# Altium integrated library TI Power Management Supervisor and Reset IC.IntLib: 819 symbols (part 18 of 30)
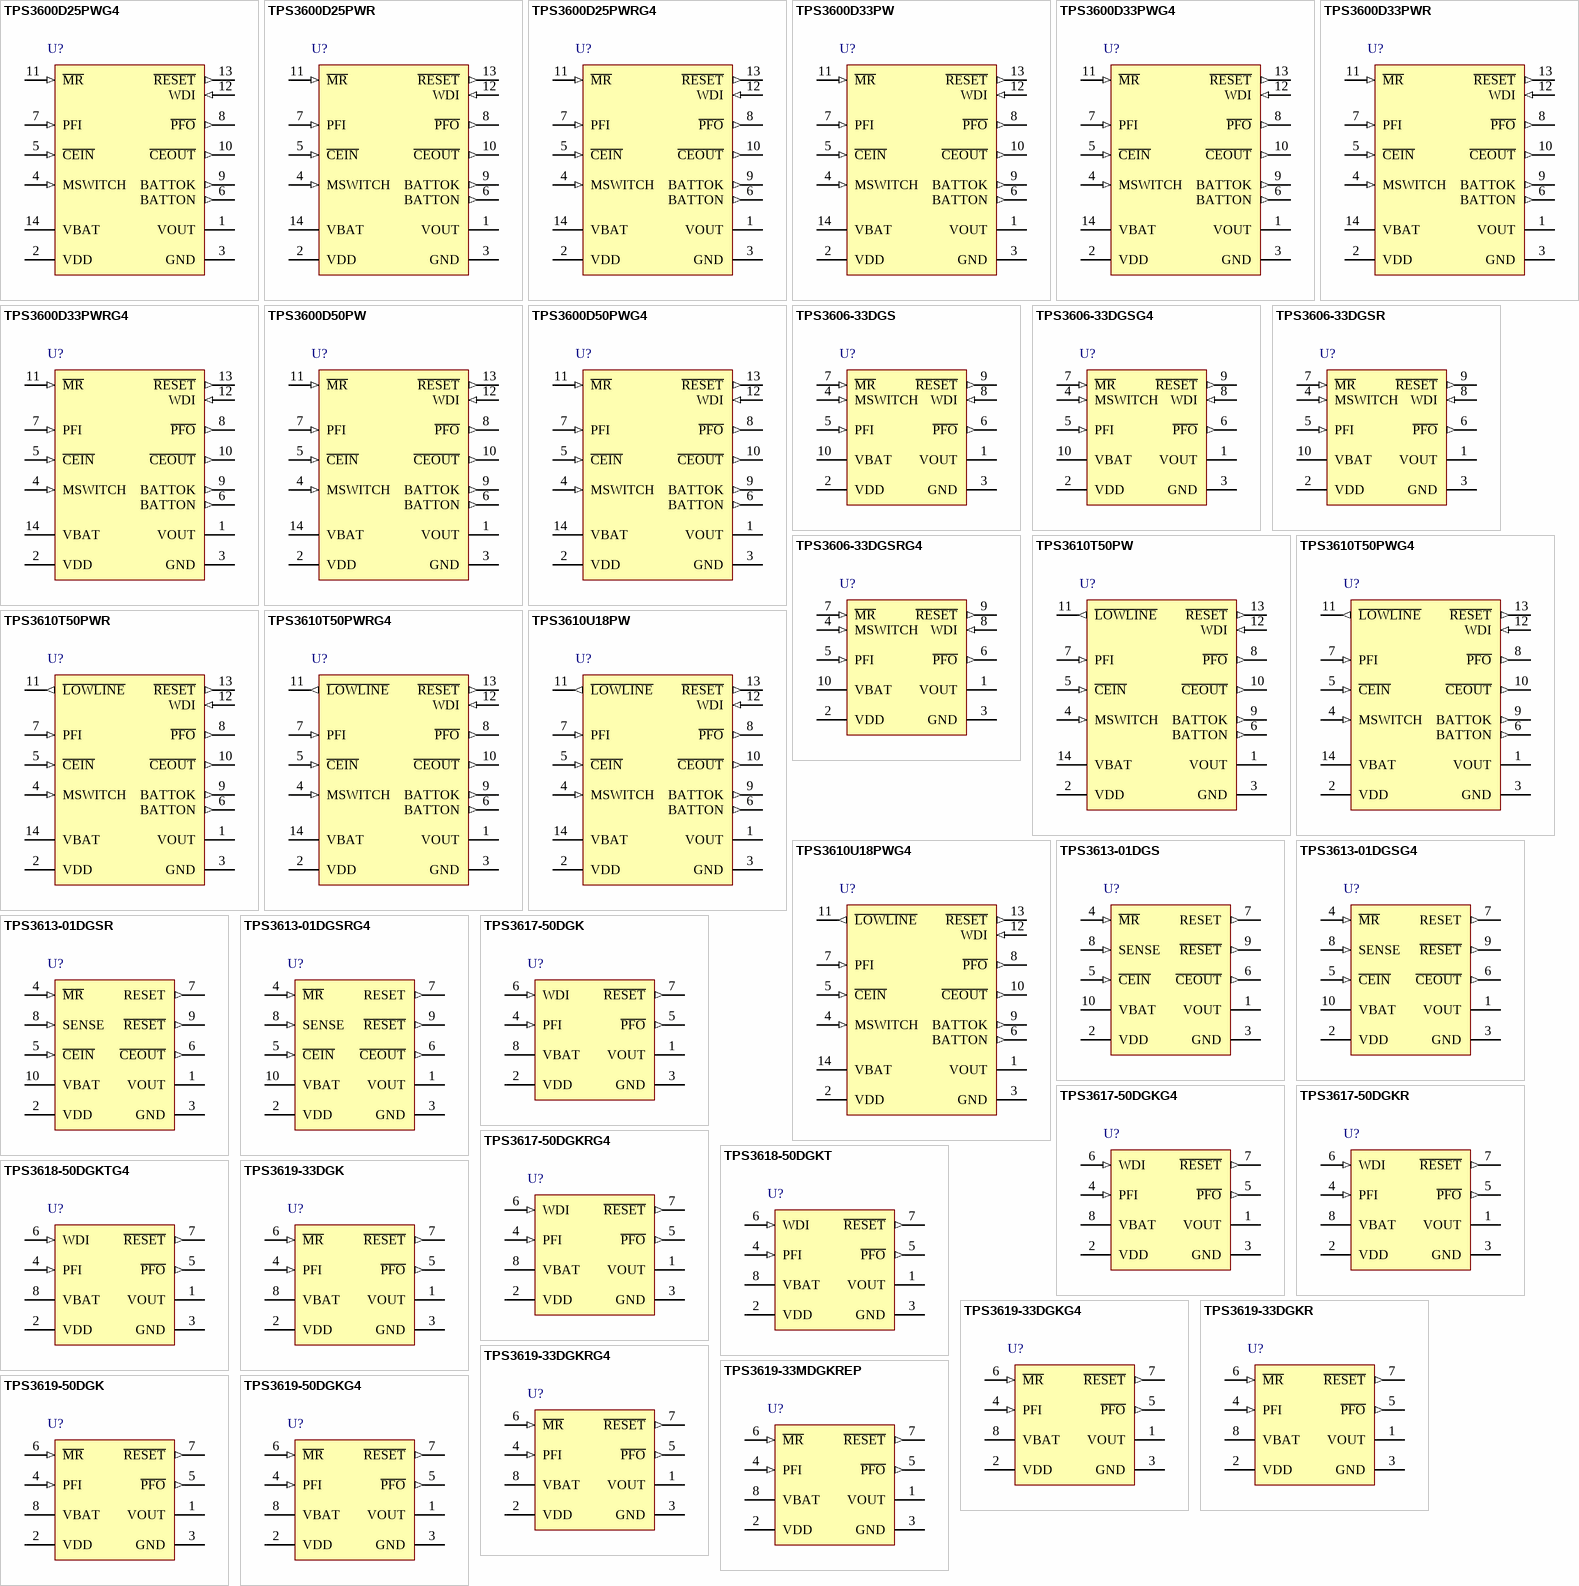
[diagram p38: symbols TPS3600D25PWG4 to TPS3619-50DGKG4]

## TPS3606-33DGSRG4
designator U?
Battery-Backup Supervisor for Low Power Processor, 1 Supply Monitored, -40 to 85 degC, 10-pin MSOP (DGS), Green (RoHS & no Sb/Br); Manufacturer: Texas Instruments; PartNumber: TPS3606-33DGSRG4; # of supplies monitored: 1; Iq(Typ)(uA): 20; Output Driver Type / Reset Output: Active-low, Push-pull; Rating: Catalog; Reset Threshold Accuracy(%): 2; SubFamily: Supervisor and Reset IC; Threshold Voltage 1 (typ)(Typ)(V): 2.93; Threshold Voltage 2 (typ)(Typ)(V): Adjustable; Time Delay(ms): 100; VCC(Max)(V): 5.5; VCC(Min)(V): 1.65; Watchdog Timer WDI(sec): 0.8; DatasheetVersion: SLVS335C; PackageVersion: revC, Feb-2004; PackageReference: DGS10; PackageDescription: 10-Pin Thin Shrink Small Outline Package 0.5 mm Pitch; Supplier 1: Digi-Key; Supplier Part Number 1: TPS3606-33DGSRG4-ND; Supplier 2: Newark; Supplier Part Number 2: 54K1634; Supplier 3: Mouser; Supplier Part Number 3: 595-TPS3606-33DGSRG4; Mounting Technology: Surface Mount; Code_JEDEC: MO-187-BA; ComponentLink1Description: Datasheet; ComponentLink1URL: http://www.ti.com/general/docs/lit/getliterature.tsp?genericPartNumber=TPS3606-33&fileType=pdf
footprint DGS10_N (TSSOP, 10-Leads, Body 3x3mm, Pitch 0.5mm, IPC Medium Density)
footprint DGS10_L (TSSOP, 10-Leads, Body 3x3mm, Pitch 0.5mm, IPC High Density)
footprint DGS10_M (TSSOP, 10-Leads, Body 3x3mm, Pitch 0.5mm, IPC Low Density)
pins: 1 VOUT (power) "Supply output", 2 VDD (power) "Input supply voltage", 3 GND (power) "Ground", 4 MSWITCH (in) "Manual switch to force device into battery-backup mode", 5 PFI (in) "Power-fail comparator input", 6 ~{PFO} (out) "Power-fail comparator output", 7 ~{MR} (in) "Manual reset input", 8 WDI (in) "Watchdog timer input", 9 ~{RESET} (out) "Active-low reset output", 10 VBAT (power) "Backup-battery input"

## TPS3610T50PW
designator U?
Battery-Backup Supervisor for RAM Retention, 1 Supply Monitored, -40 to 85 degC, 14-pin TSSOP (PW), Green (RoHS & no Sb/Br); Manufacturer: Texas Instruments; PartNumber: TPS3610T50PW; # of supplies monitored: 1; Iq(Typ)(uA): 20; Output Driver Type / Reset Output: Active-low, Push-pull; Rating: Catalog; Reset Threshold Accuracy(%): 2; SubFamily: Supervisor and Reset IC; Threshold Voltage 1 (typ)(Typ)(V): 4.55; Threshold Voltage 2 (typ)(Typ)(V): Adjustable; Time Delay(ms): 100; VCC(Max)(V): 5.5; VCC(Min)(V): 1.65; Watchdog Timer WDI(sec): 0.8; DatasheetVersion: SLVS327B; PackageVersion: revG, Feb-2011; PackageReference: PW14; PackageDescription: 14-Pin Thin Small Outline Package 0.65 mm Pitch; Supplier 1: Digi-Key; Supplier Part Number 1: 296-10910-5-ND; Supplier 2: Newark; Supplier Part Number 2: 77C0351; Supplier 3: Mouser; Supplier Part Number 3: 595-TPS3610T50PW; Mounting Technology: Surface Mount; Code_JEDEC: MO-153; ComponentLink1Description: Datasheet; ComponentLink1URL: http://www.ti.com/general/docs/lit/getliterature.tsp?genericPartNumber=TPS3610T50&fileType=pdf
footprint PW14_N (TSOP, 14-Leads, Body 5x4.4mm, Pitch 0.65mm, IPC Medium Density)
footprint PW14_L (TSOP, 14-Leads, Body 5x4.4mm, Pitch 0.65mm, IPC High Density)
footprint PW14_M (TSOP, 14-Leads, Body 5x4.4mm, Pitch 0.65mm, IPC Low Density)
pins: 1 VOUT (power) "Supply output", 2 VDD (power) "Input supply voltage", 3 GND (power) "Ground", 4 MSWITCH (in) "Manual switch to force device into battery-backup mode", 5 ~{CEIN} (in) "Chip-enable input", 6 BATTON (out) "Logic output/external bypass switch driver output", 7 PFI (in) "Power-fail comparator input", 8 ~{PFO} (out) "Power-fail comparator output", 9 BATTOK (out) "Battery status output", 10 ~{CEOUT} (out) "Chip-enable output", 11 ~{LOWLINE} (out) "Early power-fail warning output", 12 WDI (in) "Watchdog timer input", 13 ~{RESET} (out) "Active-low reset output", 14 VBAT (power) "Backup-battery input"

## TPS3610T50PWG4
designator U?
Battery-Backup Supervisor for RAM Retention, 1 Supply Monitored, -40 to 85 degC, 14-pin TSSOP (PW), Green (RoHS & no Sb/Br); Manufacturer: Texas Instruments; PartNumber: TPS3610T50PWG4; # of supplies monitored: 1; Iq(Typ)(uA): 20; Output Driver Type / Reset Output: Active-low, Push-pull; Rating: Catalog; Reset Threshold Accuracy(%): 2; SubFamily: Supervisor and Reset IC; Threshold Voltage 1 (typ)(Typ)(V): 4.55; Threshold Voltage 2 (typ)(Typ)(V): Adjustable; Time Delay(ms): 100; VCC(Max)(V): 5.5; VCC(Min)(V): 1.65; Watchdog Timer WDI(sec): 0.8; DatasheetVersion: SLVS327B; PackageVersion: revG, Feb-2011; PackageReference: PW14; PackageDescription: 14-Pin Thin Small Outline Package 0.65 mm Pitch; Supplier 1: Digi-Key; Supplier Part Number 1: TPS3610T50PWG4-ND; Supplier 2: Newark; Supplier Part Number 2: 02M4309; Supplier 3: Mouser; Supplier Part Number 3: 595-TPS3610T50PWG4; Mounting Technology: Surface Mount; Code_JEDEC: MO-153; ComponentLink1Description: Datasheet; ComponentLink1URL: http://www.ti.com/general/docs/lit/getliterature.tsp?genericPartNumber=TPS3610T50&fileType=pdf
footprint PW14_N (TSOP, 14-Leads, Body 5x4.4mm, Pitch 0.65mm, IPC Medium Density)
footprint PW14_L (TSOP, 14-Leads, Body 5x4.4mm, Pitch 0.65mm, IPC High Density)
footprint PW14_M (TSOP, 14-Leads, Body 5x4.4mm, Pitch 0.65mm, IPC Low Density)
pins: 1 VOUT (power) "Supply output", 2 VDD (power) "Input supply voltage", 3 GND (power) "Ground", 4 MSWITCH (in) "Manual switch to force device into battery-backup mode", 5 ~{CEIN} (in) "Chip-enable input", 6 BATTON (out) "Logic output/external bypass switch driver output", 7 PFI (in) "Power-fail comparator input", 8 ~{PFO} (out) "Power-fail comparator output", 9 BATTOK (out) "Battery status output", 10 ~{CEOUT} (out) "Chip-enable output", 11 ~{LOWLINE} (out) "Early power-fail warning output", 12 WDI (in) "Watchdog timer input", 13 ~{RESET} (out) "Active-low reset output", 14 VBAT (power) "Backup-battery input"

## TPS3610T50PWR
designator U?
Battery-Backup Supervisor for RAM Retention, 1 Supply Monitored, -40 to 85 degC, 14-pin TSSOP (PW), Green (RoHS & no Sb/Br); Manufacturer: Texas Instruments; PartNumber: TPS3610T50PWR; # of supplies monitored: 1; Iq(Typ)(uA): 20; Output Driver Type / Reset Output: Active-low, Push-pull; Rating: Catalog; Reset Threshold Accuracy(%): 2; SubFamily: Supervisor and Reset IC; Threshold Voltage 1 (typ)(Typ)(V): 4.55; Threshold Voltage 2 (typ)(Typ)(V): Adjustable; Time Delay(ms): 100; VCC(Max)(V): 5.5; VCC(Min)(V): 1.65; Watchdog Timer WDI(sec): 0.8; DatasheetVersion: SLVS327B; PackageVersion: revG, Feb-2011; PackageReference: PW14; PackageDescription: 14-Pin Thin Small Outline Package 0.65 mm Pitch; Supplier 1: Digi-Key; Supplier Part Number 1: TPS3610T50PWR-ND; Supplier 2: Newark; Supplier Part Number 2: 77C0352; Supplier 3: Mouser; Supplier Part Number 3: 595-TPS3610T50PWR; Mounting Technology: Surface Mount; Code_JEDEC: MO-153; ComponentLink1Description: Datasheet; ComponentLink1URL: http://www.ti.com/general/docs/lit/getliterature.tsp?genericPartNumber=TPS3610T50&fileType=pdf
footprint PW14_N (TSOP, 14-Leads, Body 5x4.4mm, Pitch 0.65mm, IPC Medium Density)
footprint PW14_L (TSOP, 14-Leads, Body 5x4.4mm, Pitch 0.65mm, IPC High Density)
footprint PW14_M (TSOP, 14-Leads, Body 5x4.4mm, Pitch 0.65mm, IPC Low Density)
pins: 1 VOUT (power) "Supply output", 2 VDD (power) "Input supply voltage", 3 GND (power) "Ground", 4 MSWITCH (in) "Manual switch to force device into battery-backup mode", 5 ~{CEIN} (in) "Chip-enable input", 6 BATTON (out) "Logic output/external bypass switch driver output", 7 PFI (in) "Power-fail comparator input", 8 ~{PFO} (out) "Power-fail comparator output", 9 BATTOK (out) "Battery status output", 10 ~{CEOUT} (out) "Chip-enable output", 11 ~{LOWLINE} (out) "Early power-fail warning output", 12 WDI (in) "Watchdog timer input", 13 ~{RESET} (out) "Active-low reset output", 14 VBAT (power) "Backup-battery input"

## TPS3610T50PWRG4
designator U?
Battery-Backup Supervisor for RAM Retention, 1 Supply Monitored, -40 to 85 degC, 14-pin TSSOP (PW), Green (RoHS & no Sb/Br); Manufacturer: Texas Instruments; PartNumber: TPS3610T50PWRG4; # of supplies monitored: 1; Iq(Typ)(uA): 20; Output Driver Type / Reset Output: Active-low, Push-pull; Rating: Catalog; Reset Threshold Accuracy(%): 2; SubFamily: Supervisor and Reset IC; Threshold Voltage 1 (typ)(Typ)(V): 4.55; Threshold Voltage 2 (typ)(Typ)(V): Adjustable; Time Delay(ms): 100; VCC(Max)(V): 5.5; VCC(Min)(V): 1.65; Watchdog Timer WDI(sec): 0.8; DatasheetVersion: SLVS327B; PackageVersion: revG, Feb-2011; PackageReference: PW14; PackageDescription: 14-Pin Thin Small Outline Package 0.65 mm Pitch; Supplier 1: Digi-Key; Supplier Part Number 1: TPS3610T50PWRG4-ND; Supplier 2: Newark; Supplier Part Number 2: 04M0250; Supplier 3: Mouser; Supplier Part Number 3: 595-TPS3610T50PWRG4; Mounting Technology: Surface Mount; Code_JEDEC: MO-153; ComponentLink1Description: Datasheet; ComponentLink1URL: http://www.ti.com/general/docs/lit/getliterature.tsp?genericPartNumber=TPS3610T50&fileType=pdf
footprint PW14_N (TSOP, 14-Leads, Body 5x4.4mm, Pitch 0.65mm, IPC Medium Density)
footprint PW14_L (TSOP, 14-Leads, Body 5x4.4mm, Pitch 0.65mm, IPC High Density)
footprint PW14_M (TSOP, 14-Leads, Body 5x4.4mm, Pitch 0.65mm, IPC Low Density)
pins: 1 VOUT (power) "Supply output", 2 VDD (power) "Input supply voltage", 3 GND (power) "Ground", 4 MSWITCH (in) "Manual switch to force device into battery-backup mode", 5 ~{CEIN} (in) "Chip-enable input", 6 BATTON (out) "Logic output/external bypass switch driver output", 7 PFI (in) "Power-fail comparator input", 8 ~{PFO} (out) "Power-fail comparator output", 9 BATTOK (out) "Battery status output", 10 ~{CEOUT} (out) "Chip-enable output", 11 ~{LOWLINE} (out) "Early power-fail warning output", 12 WDI (in) "Watchdog timer input", 13 ~{RESET} (out) "Active-low reset output", 14 VBAT (power) "Backup-battery input"

## TPS3610U18PW
designator U?
Battery-Backup Supervisor for RAM Retention, 1 Supply Monitored, -40 to 85 degC, 14-pin TSSOP (PW), Green (RoHS & no Sb/Br); Manufacturer: Texas Instruments; PartNumber: TPS3610U18PW; # of supplies monitored: 1; Iq(Typ)(uA): 20; Output Driver Type / Reset Output: Active-low, Push-pull; Rating: Catalog; Reset Threshold Accuracy(%): 1.8; SubFamily: Supervisor and Reset IC; Threshold Voltage 1 (typ)(Typ)(V): 1.71; Threshold Voltage 2 (typ)(Typ)(V): Adjustable; Time Delay(ms): 100; VCC(Max)(V): 5.5; VCC(Min)(V): 1.65; Watchdog Timer WDI(sec): 0.8; DatasheetVersion: SLVS327B; PackageVersion: revG, Feb-2011; PackageReference: PW14; PackageDescription: 14-Pin Thin Small Outline Package 0.65 mm Pitch; Supplier 1: Digi-Key; Supplier Part Number 1: 296-12239-5-ND; Supplier 2: Newark; Supplier Part Number 2: 77C0353; Supplier 3: Mouser; Supplier Part Number 3: 595-TPS3610U18PW; Mounting Technology: Surface Mount; Code_JEDEC: MO-153; ComponentLink1Description: Datasheet; ComponentLink1URL: http://www.ti.com/general/docs/lit/getliterature.tsp?genericPartNumber=TPS3610U18&fileType=pdf
footprint PW14_N (TSOP, 14-Leads, Body 5x4.4mm, Pitch 0.65mm, IPC Medium Density)
footprint PW14_L (TSOP, 14-Leads, Body 5x4.4mm, Pitch 0.65mm, IPC High Density)
footprint PW14_M (TSOP, 14-Leads, Body 5x4.4mm, Pitch 0.65mm, IPC Low Density)
pins: 1 VOUT (power) "Supply output", 2 VDD (power) "Input supply voltage", 3 GND (power) "Ground", 4 MSWITCH (in) "Manual switch to force device into battery-backup mode", 5 ~{CEIN} (in) "Chip-enable input", 6 BATTON (out) "Logic output/external bypass switch driver output", 7 PFI (in) "Power-fail comparator input", 8 ~{PFO} (out) "Power-fail comparator output", 9 BATTOK (out) "Battery status output", 10 ~{CEOUT} (out) "Chip-enable output", 11 ~{LOWLINE} (out) "Early power-fail warning output", 12 WDI (in) "Watchdog timer input", 13 ~{RESET} (out) "Active-low reset output", 14 VBAT (power) "Backup-battery input"

## TPS3610U18PWG4
designator U?
Battery-Backup Supervisor for RAM Retention, 1 Supply Monitored, -40 to 85 degC, 14-pin TSSOP (PW), Green (RoHS & no Sb/Br); Manufacturer: Texas Instruments; PartNumber: TPS3610U18PWG4; # of supplies monitored: 1; Iq(Typ)(uA): 20; Output Driver Type / Reset Output: Active-low, Push-pull; Rating: Catalog; Reset Threshold Accuracy(%): 1.8; SubFamily: Supervisor and Reset IC; Threshold Voltage 1 (typ)(Typ)(V): 1.71; Threshold Voltage 2 (typ)(Typ)(V): Adjustable; Time Delay(ms): 100; VCC(Max)(V): 5.5; VCC(Min)(V): 1.65; Watchdog Timer WDI(sec): 0.8; DatasheetVersion: SLVS327B; PackageVersion: revG, Feb-2011; PackageReference: PW14; PackageDescription: 14-Pin Thin Small Outline Package 0.65 mm Pitch; Supplier 1: Digi-Key; Supplier Part Number 1: TPS3610U18PWG4-ND; Supplier 2: Newark; Supplier Part Number 2: 27M2899; Supplier 3: Mouser; Supplier Part Number 3: 595-TPS3610U18PWG4; Mounting Technology: Surface Mount; Code_JEDEC: MO-153; ComponentLink1Description: Datasheet; ComponentLink1URL: http://www.ti.com/general/docs/lit/getliterature.tsp?genericPartNumber=TPS3610U18&fileType=pdf
footprint PW14_N (TSOP, 14-Leads, Body 5x4.4mm, Pitch 0.65mm, IPC Medium Density)
footprint PW14_L (TSOP, 14-Leads, Body 5x4.4mm, Pitch 0.65mm, IPC High Density)
footprint PW14_M (TSOP, 14-Leads, Body 5x4.4mm, Pitch 0.65mm, IPC Low Density)
pins: 1 VOUT (power) "Supply output", 2 VDD (power) "Input supply voltage", 3 GND (power) "Ground", 4 MSWITCH (in) "Manual switch to force device into battery-backup mode", 5 ~{CEIN} (in) "Chip-enable input", 6 BATTON (out) "Logic output/external bypass switch driver output", 7 PFI (in) "Power-fail comparator input", 8 ~{PFO} (out) "Power-fail comparator output", 9 BATTOK (out) "Battery status output", 10 ~{CEOUT} (out) "Chip-enable output", 11 ~{LOWLINE} (out) "Early power-fail warning output", 12 WDI (in) "Watchdog timer input", 13 ~{RESET} (out) "Active-low reset output", 14 VBAT (power) "Backup-battery input"

## TPS3613-01DGS
designator U?
Adjustable Battery-Backup Supervisor for RAM Retention, 1 Supply Monitored, -40 to 85 degC, 10-pin MSOP (DGS), Green (RoHS & no Sb/Br); Manufacturer: Texas Instruments; PartNumber: TPS3613-01DGS; # of supplies monitored: 1; Iq(Typ)(uA): 20; Output Driver Type / Reset Output: Active-low, Push-pull; Rating: Catalog; Reset Threshold Accuracy(%): 1.7; SubFamily: Supervisor and Reset IC; Time Delay(ms): 100; VCC(Max)(V): 5.5; VCC(Min)(V): 1.65; DatasheetVersion: SLVS340D; PackageVersion: revC, Feb-2004; PackageReference: DGS10; PackageDescription: 10-Pin Thin Shrink Small Outline Package 0.5 mm Pitch; Supplier 1: Digi-Key; Supplier Part Number 1: 296-10912-5-ND; Supplier 2: Newark; Supplier Part Number 2: 77C0355; Supplier 3: Mouser; Supplier Part Number 3: 595-TPS3613-01DGS; Threshold Voltage 1 (typ)(Typ)(V): Adjustable; Mounting Technology: Surface Mount; Code_JEDEC: MO-187-BA; ComponentLink1Description: Datasheet; ComponentLink1URL: http://www.ti.com/general/docs/lit/getliterature.tsp?genericPartNumber=TPS3613-01&fileType=pdf
footprint DGS10_N (TSSOP, 10-Leads, Body 3x3mm, Pitch 0.5mm, IPC Medium Density)
footprint DGS10_L (TSSOP, 10-Leads, Body 3x3mm, Pitch 0.5mm, IPC High Density)
footprint DGS10_M (TSSOP, 10-Leads, Body 3x3mm, Pitch 0.5mm, IPC Low Density)
pins: 1 VOUT (power) "Supply output", 2 VDD (power) "Input supply voltage", 3 GND (power) "Ground", 4 ~{MR} (in) "Manual reset input", 5 ~{CEIN} (in) "Chip-enable input", 6 ~{CEOUT} (out) "Chip-enable output", 7 RESET (out) "Active-high reset output", 8 SENSE (in) "Adjustable sense input, assumed to be connect to VDD throught feedback resistences. Call your local contacts for other application connections.", 9 ~{RESET} (out) "Active-low reset output", 10 VBAT (power) "Backup-battery input"

## TPS3613-01DGSG4
designator U?
Adjustable Battery-Backup Supervisor for RAM Retention, 1 Supply Monitored, -40 to 85 degC, 10-pin MSOP (DGS), Green (RoHS & no Sb/Br); Manufacturer: Texas Instruments; PartNumber: TPS3613-01DGSG4; # of supplies monitored: 1; Iq(Typ)(uA): 20; Output Driver Type / Reset Output: Active-low, Push-pull; Rating: Catalog; Reset Threshold Accuracy(%): 1.7; SubFamily: Supervisor and Reset IC; Time Delay(ms): 100; VCC(Max)(V): 5.5; VCC(Min)(V): 1.65; DatasheetVersion: SLVS340D; PackageVersion: revC, Feb-2004; PackageReference: DGS10; PackageDescription: 10-Pin Thin Shrink Small Outline Package 0.5 mm Pitch; Supplier 1: Digi-Key; Supplier Part Number 1: TPS3613-01DGSG4-ND; Supplier 2: Newark; Supplier Part Number 2: 54K1636; Supplier 3: Mouser; Supplier Part Number 3: 595-TPS3613-01DGSG4; Threshold Voltage 1 (typ)(Typ)(V): Adjustable; Mounting Technology: Surface Mount; Code_JEDEC: MO-187-BA; ComponentLink1Description: Datasheet; ComponentLink1URL: http://www.ti.com/general/docs/lit/getliterature.tsp?genericPartNumber=TPS3613-01&fileType=pdf
footprint DGS10_N (TSSOP, 10-Leads, Body 3x3mm, Pitch 0.5mm, IPC Medium Density)
footprint DGS10_L (TSSOP, 10-Leads, Body 3x3mm, Pitch 0.5mm, IPC High Density)
footprint DGS10_M (TSSOP, 10-Leads, Body 3x3mm, Pitch 0.5mm, IPC Low Density)
pins: 1 VOUT (power) "Supply output", 2 VDD (power) "Input supply voltage", 3 GND (power) "Ground", 4 ~{MR} (in) "Manual reset input", 5 ~{CEIN} (in) "Chip-enable input", 6 ~{CEOUT} (out) "Chip-enable output", 7 RESET (out) "Active-high reset output", 8 SENSE (in) "Adjustable sense input, assumed to be connect to VDD throught feedback resistences. Call your local contacts for other application connections.", 9 ~{RESET} (out) "Active-low reset output", 10 VBAT (power) "Backup-battery input"

## TPS3613-01DGSR
designator U?
Adjustable Battery-Backup Supervisor for RAM Retention, 1 Supply Monitored, -40 to 85 degC, 10-pin MSOP (DGS), Green (RoHS & no Sb/Br); Manufacturer: Texas Instruments; PartNumber: TPS3613-01DGSR; # of supplies monitored: 1; Iq(Typ)(uA): 20; Output Driver Type / Reset Output: Active-low, Push-pull; Rating: Catalog; Reset Threshold Accuracy(%): 1.7; SubFamily: Supervisor and Reset IC; Time Delay(ms): 100; VCC(Max)(V): 5.5; VCC(Min)(V): 1.65; DatasheetVersion: SLVS340D; PackageVersion: revC, Feb-2004; PackageReference: DGS10; PackageDescription: 10-Pin Thin Shrink Small Outline Package 0.5 mm Pitch; Supplier 1: Digi-Key; Supplier Part Number 1: 296-28005-2-ND; Supplier 2: Digi-Key; Supplier Part Number 2: 296-28005-1-ND; Supplier 3: Digi-Key; Supplier Part Number 3: 296-28005-6-ND; Supplier 4: Newark; Supplier Part Number 4: 77C0356; Supplier 5: Mouser; Supplier Part Number 5: 595-TPS3613-01DGSR; Threshold Voltage 1 (typ)(Typ)(V): Adjustable; Mounting Technology: Surface Mount; Code_JEDEC: MO-187-BA; ComponentLink1Description: Datasheet; ComponentLink1URL: http://www.ti.com/general/docs/lit/getliterature.tsp?genericPartNumber=TPS3613-01&fileType=pdf
footprint DGS10_N (TSSOP, 10-Leads, Body 3x3mm, Pitch 0.5mm, IPC Medium Density)
footprint DGS10_L (TSSOP, 10-Leads, Body 3x3mm, Pitch 0.5mm, IPC High Density)
footprint DGS10_M (TSSOP, 10-Leads, Body 3x3mm, Pitch 0.5mm, IPC Low Density)
pins: 1 VOUT (power) "Supply output", 2 VDD (power) "Input supply voltage", 3 GND (power) "Ground", 4 ~{MR} (in) "Manual reset input", 5 ~{CEIN} (in) "Chip-enable input", 6 ~{CEOUT} (out) "Chip-enable output", 7 RESET (out) "Active-high reset output", 8 SENSE (in) "Adjustable sense input, assumed to be connect to VDD throught feedback resistences. Call your local contacts for other application connections.", 9 ~{RESET} (out) "Active-low reset output", 10 VBAT (power) "Backup-battery input"

## TPS3613-01DGSRG4
designator U?
Adjustable Battery-Backup Supervisor for RAM Retention, 1 Supply Monitored, -40 to 85 degC, 10-pin MSOP (DGS), Green (RoHS & no Sb/Br); Manufacturer: Texas Instruments; PartNumber: TPS3613-01DGSRG4; # of supplies monitored: 1; Iq(Typ)(uA): 20; Output Driver Type / Reset Output: Active-low, Push-pull; Rating: Catalog; Reset Threshold Accuracy(%): 1.7; SubFamily: Supervisor and Reset IC; Time Delay(ms): 100; VCC(Max)(V): 5.5; VCC(Min)(V): 1.65; DatasheetVersion: SLVS340D; PackageVersion: revC, Feb-2004; PackageReference: DGS10; PackageDescription: 10-Pin Thin Shrink Small Outline Package 0.5 mm Pitch; Supplier 1: Digi-Key; Supplier Part Number 1: TPS3613-01DGSRG4-ND; Supplier 2: Newark; Supplier Part Number 2: 24K5922; Supplier 3: Mouser; Supplier Part Number 3: 595-TPS3613-01DGSRG4; Threshold Voltage 1 (typ)(Typ)(V): Adjustable; Mounting Technology: Surface Mount; Code_JEDEC: MO-187-BA; ComponentLink1Description: Datasheet; ComponentLink1URL: http://www.ti.com/general/docs/lit/getliterature.tsp?genericPartNumber=TPS3613-01&fileType=pdf
footprint DGS10_N (TSSOP, 10-Leads, Body 3x3mm, Pitch 0.5mm, IPC Medium Density)
footprint DGS10_L (TSSOP, 10-Leads, Body 3x3mm, Pitch 0.5mm, IPC High Density)
footprint DGS10_M (TSSOP, 10-Leads, Body 3x3mm, Pitch 0.5mm, IPC Low Density)
pins: 1 VOUT (power) "Supply output", 2 VDD (power) "Input supply voltage", 3 GND (power) "Ground", 4 ~{MR} (in) "Manual reset input", 5 ~{CEIN} (in) "Chip-enable input", 6 ~{CEOUT} (out) "Chip-enable output", 7 RESET (out) "Active-high reset output", 8 SENSE (in) "Adjustable sense input, assumed to be connect to VDD throught feedback resistences. Call your local contacts for other application connections.", 9 ~{RESET} (out) "Active-low reset output", 10 VBAT (power) "Backup-battery input"

## TPS3617-50DGK
designator U?
Battery-Backup Supervisor for RAM Retention, 1 Supply Monitored, -40 to 85 degC, 8-pin VSSOP (DGK), Green (RoHS & no Sb/Br); Manufacturer: Texas Instruments; PartNumber: TPS3617-50DGK; # of supplies monitored: 1; Iq(Typ)(uA): 20; Output Driver Type / Reset Output: Active-low, Push-pull; Rating: Catalog; Reset Threshold Accuracy(%): 2; SubFamily: Supervisor and Reset IC; Threshold Voltage 1 (typ)(Typ)(V): 4.55; Threshold Voltage 2 (typ)(Typ)(V): Adjustable; Time Delay(ms): 100; VCC(Max)(V): 5.5; VCC(Min)(V): 1.65; Watchdog Timer WDI(sec): 0.8; DatasheetVersion: SLVS339D; PackageVersion: revE, May-2006; PackageReference: DGK8; PackageDescription: 8-Pin Thin Small Outline Package 3 x 3 mm Body ,0.65 mm Pitch; Supplier 1: Digi-Key; Supplier Part Number 1: 296-10913-5-ND; Supplier 2: Newark; Supplier Part Number 2: 77C0357; Supplier 3: Mouser; Supplier Part Number 3: 595-TPS3617-50DGK; Mounting Technology: Surface Mount; Code_JEDEC: MO-187-AA; ComponentLink1Description: Datasheet; ComponentLink1URL: http://www.ti.com/general/docs/lit/getliterature.tsp?genericPartNumber=TPS3617-50&fileType=pdf
footprint DGK8_N (TSOP, 8-Leads, Body 3x3mm, Pitch 0.65mm, IPC Medium Density)
footprint DGK8_L (TSOP, 8-Leads, Body 3x3mm, Pitch 0.65mm, IPC High Density)
footprint DGK8_M (TSOP, 8-Leads, Body 3x3mm, Pitch 0.65mm, IPC Low Density)
pins: 1 VOUT (power) "Supply output", 2 VDD (power) "Input supply voltage", 3 GND (power) "Ground", 4 PFI (in) "Power-fail comparator input", 5 ~{PFO} (out) "Power-fail comparator output; asserts low when PFI < 1.15 V", 6 WDI (in) "Watchdog input. Should be left floating if not used.", 7 ~{RESET} (out) "Active-low push-pull reset output", 8 VBAT (power) "Backup-battery input"

## TPS3617-50DGKG4
designator U?
Battery-Backup Supervisor for RAM Retention, 1 Supply Monitored, -40 to 85 degC, 8-pin VSSOP (DGK), Green (RoHS & no Sb/Br); Manufacturer: Texas Instruments; PartNumber: TPS3617-50DGKG4; # of supplies monitored: 1; Iq(Typ)(uA): 20; Output Driver Type / Reset Output: Active-low, Push-pull; Rating: Catalog; Reset Threshold Accuracy(%): 2; SubFamily: Supervisor and Reset IC; Threshold Voltage 1 (typ)(Typ)(V): 4.55; Threshold Voltage 2 (typ)(Typ)(V): Adjustable; Time Delay(ms): 100; VCC(Max)(V): 5.5; VCC(Min)(V): 1.65; Watchdog Timer WDI(sec): 0.8; DatasheetVersion: SLVS339D; PackageVersion: revE, May-2006; PackageReference: DGK8; PackageDescription: 8-Pin Thin Small Outline Package 3 x 3 mm Body ,0.65 mm Pitch; Supplier 1: Digi-Key; Supplier Part Number 1: TPS3617-50DGKG4-ND; Supplier 2: Newark; Supplier Part Number 2: 70K5726; Supplier 3: Mouser; Supplier Part Number 3: 595-TPS3617-50DGKG4; Mounting Technology: Surface Mount; Code_JEDEC: MO-187-AA; ComponentLink1Description: Datasheet; ComponentLink1URL: http://www.ti.com/general/docs/lit/getliterature.tsp?genericPartNumber=TPS3617-50&fileType=pdf
footprint DGK8_N (TSOP, 8-Leads, Body 3x3mm, Pitch 0.65mm, IPC Medium Density)
footprint DGK8_L (TSOP, 8-Leads, Body 3x3mm, Pitch 0.65mm, IPC High Density)
footprint DGK8_M (TSOP, 8-Leads, Body 3x3mm, Pitch 0.65mm, IPC Low Density)
pins: 1 VOUT (power) "Supply output", 2 VDD (power) "Input supply voltage", 3 GND (power) "Ground", 4 PFI (in) "Power-fail comparator input", 5 ~{PFO} (out) "Power-fail comparator output; asserts low when PFI < 1.15 V", 6 WDI (in) "Watchdog input. Should be left floating if not used.", 7 ~{RESET} (out) "Active-low push-pull reset output", 8 VBAT (power) "Backup-battery input"

## TPS3617-50DGKR
designator U?
Battery-Backup Supervisor for RAM Retention, 1 Supply Monitored, -40 to 85 degC, 8-pin VSSOP (DGK), Green (RoHS & no Sb/Br); Manufacturer: Texas Instruments; PartNumber: TPS3617-50DGKR; # of supplies monitored: 1; Iq(Typ)(uA): 20; Output Driver Type / Reset Output: Active-low, Push-pull; Rating: Catalog; Reset Threshold Accuracy(%): 2; SubFamily: Supervisor and Reset IC; Threshold Voltage 1 (typ)(Typ)(V): 4.55; Threshold Voltage 2 (typ)(Typ)(V): Adjustable; Time Delay(ms): 100; VCC(Max)(V): 5.5; VCC(Min)(V): 1.65; Watchdog Timer WDI(sec): 0.8; DatasheetVersion: SLVS339D; PackageVersion: revE, May-2006; PackageReference: DGK8; PackageDescription: 8-Pin Thin Small Outline Package 3 x 3 mm Body ,0.65 mm Pitch; Supplier 1: Digi-Key; Supplier Part Number 1: TPS3617-50DGKR-ND; Supplier 2: Newark; Supplier Part Number 2: 77C0358; Supplier 3: Mouser; Supplier Part Number 3: 595-TPS3617-50DGKR; Mounting Technology: Surface Mount; Code_JEDEC: MO-187-AA; ComponentLink1Description: Datasheet; ComponentLink1URL: http://www.ti.com/general/docs/lit/getliterature.tsp?genericPartNumber=TPS3617-50&fileType=pdf
footprint DGK8_N (TSOP, 8-Leads, Body 3x3mm, Pitch 0.65mm, IPC Medium Density)
footprint DGK8_L (TSOP, 8-Leads, Body 3x3mm, Pitch 0.65mm, IPC High Density)
footprint DGK8_M (TSOP, 8-Leads, Body 3x3mm, Pitch 0.65mm, IPC Low Density)
pins: 1 VOUT (power) "Supply output", 2 VDD (power) "Input supply voltage", 3 GND (power) "Ground", 4 PFI (in) "Power-fail comparator input", 5 ~{PFO} (out) "Power-fail comparator output; asserts low when PFI < 1.15 V", 6 WDI (in) "Watchdog input. Should be left floating if not used.", 7 ~{RESET} (out) "Active-low push-pull reset output", 8 VBAT (power) "Backup-battery input"

## TPS3617-50DGKRG4
designator U?
Battery-Backup Supervisor for RAM Retention, 1 Supply Monitored, -40 to 85 degC, 8-pin VSSOP (DGK), Green (RoHS & no Sb/Br); Manufacturer: Texas Instruments; PartNumber: TPS3617-50DGKRG4; # of supplies monitored: 1; Iq(Typ)(uA): 20; Output Driver Type / Reset Output: Active-low, Push-pull; Rating: Catalog; Reset Threshold Accuracy(%): 2; SubFamily: Supervisor and Reset IC; Threshold Voltage 1 (typ)(Typ)(V): 4.55; Threshold Voltage 2 (typ)(Typ)(V): Adjustable; Time Delay(ms): 100; VCC(Max)(V): 5.5; VCC(Min)(V): 1.65; Watchdog Timer WDI(sec): 0.8; DatasheetVersion: SLVS339D; PackageVersion: revE, May-2006; PackageReference: DGK8; PackageDescription: 8-Pin Thin Small Outline Package 3 x 3 mm Body ,0.65 mm Pitch; Supplier 1: Digi-Key; Supplier Part Number 1: TPS3617-50DGKRG4-ND; Supplier 2: Newark; Supplier Part Number 2: 54K1637; Supplier 3: Mouser; Supplier Part Number 3: 595-TPS3617-50DGKRG4; Mounting Technology: Surface Mount; Code_JEDEC: MO-187-AA; ComponentLink1Description: Datasheet; ComponentLink1URL: http://www.ti.com/general/docs/lit/getliterature.tsp?genericPartNumber=TPS3617-50&fileType=pdf
footprint DGK8_N (TSOP, 8-Leads, Body 3x3mm, Pitch 0.65mm, IPC Medium Density)
footprint DGK8_L (TSOP, 8-Leads, Body 3x3mm, Pitch 0.65mm, IPC High Density)
footprint DGK8_M (TSOP, 8-Leads, Body 3x3mm, Pitch 0.65mm, IPC Low Density)
pins: 1 VOUT (power) "Supply output", 2 VDD (power) "Input supply voltage", 3 GND (power) "Ground", 4 PFI (in) "Power-fail comparator input", 5 ~{PFO} (out) "Power-fail comparator output; asserts low when PFI < 1.15 V", 6 WDI (in) "Watchdog input. Should be left floating if not used.", 7 ~{RESET} (out) "Active-low push-pull reset output", 8 VBAT (power) "Backup-battery input"

## TPS3618-50DGKT
designator U?
5 V Battery-Backup Supervisor for RAM Retention, 1 Supply Monitored, -40 to 125 degC, 8-pin VSSOP (DGK), Green (RoHS & no Sb/Br); Manufacturer: Texas Instruments; PartNumber: TPS3618-50DGKT; # of supplies monitored: 1; Iq(Typ)(uA): 20; Output Driver Type / Reset Output: Active-low, Push-pull; Rating: Catalog; Reset Threshold Accuracy(%): 2; SubFamily: Supervisor and Reset IC; Threshold Voltage 1 (typ)(Typ)(V): 4.55; Threshold Voltage 2 (typ)(Typ)(V): Adjustable; Time Delay(ms): 100; VCC(Max)(V): 5.5; VCC(Min)(V): 1.65; Watchdog Timer WDI(sec): 0.8; DatasheetVersion: SLVS339D; PackageVersion: revE, May-2006; PackageReference: DGK8; PackageDescription: 8-Pin Thin Small Outline Package 3 x 3 mm Body ,0.65 mm Pitch; Supplier 1: Digi-Key; Supplier Part Number 1: 296-17574-2-ND; Supplier 2: Digi-Key; Supplier Part Number 2: 296-17574-1-ND; Supplier 3: Digi-Key; Supplier Part Number 3: 296-17574-6-ND; Supplier 4: Farnell; Supplier Part Number 4: 1755700; Supplier 5: Newark; Supplier Part Number 5: 34R9193; Supplier 6: Newark; Supplier Part Number 6: 71J8102; Supplier 7: Mouser; Supplier Part Number 7: 595-TPS3618-50DGKT; Mounting Technology: Surface Mount; Code_JEDEC: MO-187-AA; ComponentLink1Description: Datasheet; ComponentLink1URL: http://www.ti.com/general/docs/lit/getliterature.tsp?genericPartNumber=TPS3618-50&fileType=pdf
footprint DGK8_N (TSOP, 8-Leads, Body 3x3mm, Pitch 0.65mm, IPC Medium Density)
footprint DGK8_L (TSOP, 8-Leads, Body 3x3mm, Pitch 0.65mm, IPC High Density)
footprint DGK8_M (TSOP, 8-Leads, Body 3x3mm, Pitch 0.65mm, IPC Low Density)
pins: 1 VOUT (power) "Supply output", 2 VDD (power) "Input supply voltage", 3 GND (power) "Ground", 4 PFI (in) "Power-fail comparator input", 5 ~{PFO} (out) "Power-fail comparator output; asserts low when PFI < 1.15 V", 6 WDI (in) "Watchdog input. Should be left floating if not used.", 7 ~{RESET} (out) "Active-low push-pull reset output", 8 VBAT (power) "Backup-battery input"

## TPS3618-50DGKTG4
designator U?
5 V Battery-Backup Supervisor for RAM Retention, 1 Supply Monitored, -40 to 125 degC, 8-pin VSSOP (DGK), Green (RoHS & no Sb/Br); Manufacturer: Texas Instruments; PartNumber: TPS3618-50DGKTG4; # of supplies monitored: 1; Iq(Typ)(uA): 20; Output Driver Type / Reset Output: Active-low, Push-pull; Rating: Catalog; Reset Threshold Accuracy(%): 2; SubFamily: Supervisor and Reset IC; Threshold Voltage 1 (typ)(Typ)(V): 4.55; Threshold Voltage 2 (typ)(Typ)(V): Adjustable; Time Delay(ms): 100; VCC(Max)(V): 5.5; VCC(Min)(V): 1.65; Watchdog Timer WDI(sec): 0.8; DatasheetVersion: SLVS339D; PackageVersion: revE, May-2006; PackageReference: DGK8; PackageDescription: 8-Pin Thin Small Outline Package 3 x 3 mm Body ,0.65 mm Pitch; Supplier 1: Digi-Key; Supplier Part Number 1: TPS3618-50DGKTG4-ND; Supplier 2: Newark; Supplier Part Number 2: 27M2900; Supplier 3: Mouser; Supplier Part Number 3: 595-TPS3618-50DGKTG4; Mounting Technology: Surface Mount; Code_JEDEC: MO-187-AA; ComponentLink1Description: Datasheet; ComponentLink1URL: http://www.ti.com/general/docs/lit/getliterature.tsp?genericPartNumber=TPS3618-50&fileType=pdf
footprint DGK8_N (TSOP, 8-Leads, Body 3x3mm, Pitch 0.65mm, IPC Medium Density)
footprint DGK8_L (TSOP, 8-Leads, Body 3x3mm, Pitch 0.65mm, IPC High Density)
footprint DGK8_M (TSOP, 8-Leads, Body 3x3mm, Pitch 0.65mm, IPC Low Density)
pins: 1 VOUT (power) "Supply output", 2 VDD (power) "Input supply voltage", 3 GND (power) "Ground", 4 PFI (in) "Power-fail comparator input", 5 ~{PFO} (out) "Power-fail comparator output; asserts low when PFI < 1.15 V", 6 WDI (in) "Watchdog input. Should be left floating if not used.", 7 ~{RESET} (out) "Active-low push-pull reset output", 8 VBAT (power) "Backup-battery input"

## TPS3619-33DGK
designator U?
Battery-Backup Supervisor for RAM Retention, 1 Supply Monitored, -40 to 85 degC, 8-pin VSSOP (DGK), Green (RoHS & no Sb/Br); Manufacturer: Texas Instruments; PartNumber: TPS3619-33DGK; # of supplies monitored: 1; Iq(Typ)(uA): 15; Output Driver Type / Reset Output: Active-low, Push-pull; Rating: Catalog; Reset Threshold Accuracy(%): 2; SubFamily: Supervisor and Reset IC; Threshold Voltage 1 (typ)(Typ)(V): 2.93; Threshold Voltage 2 (typ)(Typ)(V): Adjustable; Time Delay(ms): 100; VCC(Max)(V): 5.5; VCC(Min)(V): 1.65; DatasheetVersion: SLVS387H; PackageVersion: revE, May-2006; PackageReference: DGK8; PackageDescription: 8-Pin Thin Small Outline Package 3 x 3 mm Body ,0.65 mm Pitch; Supplier 1: Digi-Key; Supplier Part Number 1: 296-12141-5-ND; Supplier 2: Newark; Supplier Part Number 2: 77C0359; Supplier 3: Mouser; Supplier Part Number 3: 595-TPS3619-33DGK; Mounting Technology: Surface Mount; Code_JEDEC: MO-187-AA; ComponentLink1Description: Datasheet; ComponentLink1URL: http://www.ti.com/general/docs/lit/getliterature.tsp?genericPartNumber=TPS3619-33&fileType=pdf
footprint DGK8_N (TSOP, 8-Leads, Body 3x3mm, Pitch 0.65mm, IPC Medium Density)
footprint DGK8_L (TSOP, 8-Leads, Body 3x3mm, Pitch 0.65mm, IPC High Density)
footprint DGK8_M (TSOP, 8-Leads, Body 3x3mm, Pitch 0.65mm, IPC Low Density)
pins: 1 VOUT (power) "Supply output", 2 VDD (power) "Input supply voltage", 3 GND (power) "Ground", 4 PFI (in) "Power-fail comparator input", 5 ~{PFO} (out) "Power-fail comparator output", 6 ~{MR} (in) "Manual reset input", 7 ~{RESET} (out) "Active-low reset output", 8 VBAT (power) "Backup-battery input"

## TPS3619-33DGKG4
designator U?
Battery-Backup Supervisor for RAM Retention, 1 Supply Monitored, -40 to 85 degC, 8-pin VSSOP (DGK), Green (RoHS & no Sb/Br); Manufacturer: Texas Instruments; PartNumber: TPS3619-33DGKG4; # of supplies monitored: 1; Iq(Typ)(uA): 15; Output Driver Type / Reset Output: Active-low, Push-pull; Rating: Catalog; Reset Threshold Accuracy(%): 2; SubFamily: Supervisor and Reset IC; Threshold Voltage 1 (typ)(Typ)(V): 2.93; Threshold Voltage 2 (typ)(Typ)(V): Adjustable; Time Delay(ms): 100; VCC(Max)(V): 5.5; VCC(Min)(V): 1.65; DatasheetVersion: SLVS387H; PackageVersion: revE, May-2006; PackageReference: DGK8; PackageDescription: 8-Pin Thin Small Outline Package 3 x 3 mm Body ,0.65 mm Pitch; Supplier 1: Digi-Key; Supplier Part Number 1: TPS3619-33DGKG4-ND; Supplier 2: Farnell; Supplier Part Number 2: 1207322; Supplier 3: Newark; Supplier Part Number 3: 24M8517; Supplier 4: Newark; Supplier Part Number 4: 66K4520; Supplier 5: Mouser; Supplier Part Number 5: 595-TPS3619-33DGKG4; Mounting Technology: Surface Mount; Code_JEDEC: MO-187-AA; ComponentLink1Description: Datasheet; ComponentLink1URL: http://www.ti.com/general/docs/lit/getliterature.tsp?genericPartNumber=TPS3619-33&fileType=pdf
footprint DGK8_N (TSOP, 8-Leads, Body 3x3mm, Pitch 0.65mm, IPC Medium Density)
footprint DGK8_L (TSOP, 8-Leads, Body 3x3mm, Pitch 0.65mm, IPC High Density)
footprint DGK8_M (TSOP, 8-Leads, Body 3x3mm, Pitch 0.65mm, IPC Low Density)
pins: 1 VOUT (power) "Supply output", 2 VDD (power) "Input supply voltage", 3 GND (power) "Ground", 4 PFI (in) "Power-fail comparator input", 5 ~{PFO} (out) "Power-fail comparator output", 6 ~{MR} (in) "Manual reset input", 7 ~{RESET} (out) "Active-low reset output", 8 VBAT (power) "Backup-battery input"

## TPS3619-33DGKR
designator U?
Battery-Backup Supervisor for RAM Retention, 1 Supply Monitored, -40 to 85 degC, 8-pin VSSOP (DGK), Green (RoHS & no Sb/Br); Manufacturer: Texas Instruments; PartNumber: TPS3619-33DGKR; # of supplies monitored: 1; Iq(Typ)(uA): 15; Output Driver Type / Reset Output: Active-low, Push-pull; Rating: Catalog; Reset Threshold Accuracy(%): 2; SubFamily: Supervisor and Reset IC; Threshold Voltage 1 (typ)(Typ)(V): 2.93; Threshold Voltage 2 (typ)(Typ)(V): Adjustable; Time Delay(ms): 100; VCC(Max)(V): 5.5; VCC(Min)(V): 1.65; DatasheetVersion: SLVS387H; PackageVersion: revE, May-2006; PackageReference: DGK8; PackageDescription: 8-Pin Thin Small Outline Package 3 x 3 mm Body ,0.65 mm Pitch; Supplier 1: Digi-Key; Supplier Part Number 1: 296-31982-2-ND; Supplier 2: Digi-Key; Supplier Part Number 2: 296-31982-1-ND; Supplier 3: Digi-Key; Supplier Part Number 3: 296-31982-6-ND; Supplier 4: Newark; Supplier Part Number 4: 77C0360; Supplier 5: Mouser; Supplier Part Number 5: 595-TPS3619-33DGKR; Mounting Technology: Surface Mount; Code_JEDEC: MO-187-AA; ComponentLink1Description: Datasheet; ComponentLink1URL: http://www.ti.com/general/docs/lit/getliterature.tsp?genericPartNumber=TPS3619-33&fileType=pdf
footprint DGK8_N (TSOP, 8-Leads, Body 3x3mm, Pitch 0.65mm, IPC Medium Density)
footprint DGK8_L (TSOP, 8-Leads, Body 3x3mm, Pitch 0.65mm, IPC High Density)
footprint DGK8_M (TSOP, 8-Leads, Body 3x3mm, Pitch 0.65mm, IPC Low Density)
pins: 1 VOUT (power) "Supply output", 2 VDD (power) "Input supply voltage", 3 GND (power) "Ground", 4 PFI (in) "Power-fail comparator input", 5 ~{PFO} (out) "Power-fail comparator output", 6 ~{MR} (in) "Manual reset input", 7 ~{RESET} (out) "Active-low reset output", 8 VBAT (power) "Backup-battery input"

## TPS3619-33DGKRG4
designator U?
Battery-Backup Supervisor for RAM Retention, 1 Supply Monitored, -40 to 85 degC, 8-pin VSSOP (DGK), Green (RoHS & no Sb/Br); Manufacturer: Texas Instruments; PartNumber: TPS3619-33DGKRG4; # of supplies monitored: 1; Iq(Typ)(uA): 15; Output Driver Type / Reset Output: Active-low, Push-pull; Rating: Catalog; Reset Threshold Accuracy(%): 2; SubFamily: Supervisor and Reset IC; Threshold Voltage 1 (typ)(Typ)(V): 2.93; Threshold Voltage 2 (typ)(Typ)(V): Adjustable; Time Delay(ms): 100; VCC(Max)(V): 5.5; VCC(Min)(V): 1.65; DatasheetVersion: SLVS387H; PackageVersion: revE, May-2006; PackageReference: DGK8; PackageDescription: 8-Pin Thin Small Outline Package 3 x 3 mm Body ,0.65 mm Pitch; Supplier 1: Digi-Key; Supplier Part Number 1: TPS3619-33DGKRG4-ND; Supplier 2: Newark; Supplier Part Number 2: 24K5923; Supplier 3: Mouser; Supplier Part Number 3: 595-TPS3619-33DGKRG4; Mounting Technology: Surface Mount; Code_JEDEC: MO-187-AA; ComponentLink1Description: Datasheet; ComponentLink1URL: http://www.ti.com/general/docs/lit/getliterature.tsp?genericPartNumber=TPS3619-33&fileType=pdf
footprint DGK8_N (TSOP, 8-Leads, Body 3x3mm, Pitch 0.65mm, IPC Medium Density)
footprint DGK8_L (TSOP, 8-Leads, Body 3x3mm, Pitch 0.65mm, IPC High Density)
footprint DGK8_M (TSOP, 8-Leads, Body 3x3mm, Pitch 0.65mm, IPC Low Density)
pins: 1 VOUT (power) "Supply output", 2 VDD (power) "Input supply voltage", 3 GND (power) "Ground", 4 PFI (in) "Power-fail comparator input", 5 ~{PFO} (out) "Power-fail comparator output", 6 ~{MR} (in) "Manual reset input", 7 ~{RESET} (out) "Active-low reset output", 8 VBAT (power) "Backup-battery input"

## TPS3619-33MDGKREP
designator U?
Enhanced Product Backup-Battery Supervisor for Ram Retention, 1 Supply Monitored, -55 to 125 degC, 8-pin MSOP (DGK), Green (RoHS & no Sb/Br); Manufacturer: Texas Instruments; PartNumber: TPS3619-33MDGKREP; # of supplies monitored: 1; Iq(Typ)(uA): 15; Output Driver Type / Reset Output: Active-low, Push-pull; Rating: HiRel Enhanced Product; Reset Threshold Accuracy(%): 2; SubFamily: Supervisor and Reset IC; Threshold Voltage 1 (typ)(Typ)(V): 2.93; Threshold Voltage 2 (typ)(Typ)(V): Adjustable; Time Delay(ms): 100; VCC(Max)(V): 5.5; VCC(Min)(V): 1.65; DatasheetVersion: SGLS350C; PackageVersion: revE, May-2006; PackageReference: DGK8; PackageDescription: 8-Pin Thin Small Outline Package 3 x 3 mm Body ,0.65 mm Pitch; Supplier 1: Digi-Key; Supplier Part Number 1: 296-22436-2-ND; Supplier 2: Digi-Key; Supplier Part Number 2: 296-22436-1-ND; Supplier 3: Digi-Key; Supplier Part Number 3: 296-22436-6-ND; Supplier 4: Newark; Supplier Part Number 4: 46M3175; Supplier 5: Mouser; Supplier Part Number 5: 595-PS3619-33MDGKREP; Mounting Technology: Surface Mount; Code_JEDEC: MO-187-AA; ComponentLink1Description: Datasheet; ComponentLink1URL: http://www.ti.com/general/docs/lit/getliterature.tsp?genericPartNumber=TPS3619-33-EP&fileType=pdf
footprint DGK8_N (TSOP, 8-Leads, Body 3x3mm, Pitch 0.65mm, IPC Medium Density)
footprint DGK8_L (TSOP, 8-Leads, Body 3x3mm, Pitch 0.65mm, IPC High Density)
footprint DGK8_M (TSOP, 8-Leads, Body 3x3mm, Pitch 0.65mm, IPC Low Density)
pins: 1 VOUT (power) "Supply output voltage", 2 VDD (power) "Supply input voltage", 3 GND (power) "Ground", 4 PFI (in) "Power-fail comparator input", 5 ~{PFO} (out) "Power-fail comparator output", 6 ~{MR} (in) "Manual reset", 7 ~{RESET} (out) "Active-low reset", 8 VBAT (power) "Backup battery"

## TPS3619-50DGK
designator U?
Battery-Backup Supervisor for RAM Retention, 1 Supply Monitored, -40 to 85 degC, 8-pin VSSOP (DGK), Green (RoHS & no Sb/Br); Manufacturer: Texas Instruments; PartNumber: TPS3619-50DGK; # of supplies monitored: 1; Iq(Typ)(uA): 15; Output Driver Type / Reset Output: Active-low, Push-pull; Rating: Catalog; Reset Threshold Accuracy(%): 2; SubFamily: Supervisor and Reset IC; Threshold Voltage 1 (typ)(Typ)(V): 4.55; Threshold Voltage 2 (typ)(Typ)(V): Adjustable; Time Delay(ms): 100; VCC(Max)(V): 5.5; VCC(Min)(V): 1.65; DatasheetVersion: SLVS387H; PackageVersion: revE, May-2006; PackageReference: DGK8; PackageDescription: 8-Pin Thin Small Outline Package 3 x 3 mm Body ,0.65 mm Pitch; Supplier 1: Digi-Key; Supplier Part Number 1: 296-12142-5-ND; Supplier 2: Newark; Supplier Part Number 2: 77C0361; Supplier 3: Mouser; Supplier Part Number 3: 595-TPS3619-50DGK; Mounting Technology: Surface Mount; Code_JEDEC: MO-187-AA; ComponentLink1Description: Datasheet; ComponentLink1URL: http://www.ti.com/general/docs/lit/getliterature.tsp?genericPartNumber=TPS3619-50&fileType=pdf
footprint DGK8_N (TSOP, 8-Leads, Body 3x3mm, Pitch 0.65mm, IPC Medium Density)
footprint DGK8_L (TSOP, 8-Leads, Body 3x3mm, Pitch 0.65mm, IPC High Density)
footprint DGK8_M (TSOP, 8-Leads, Body 3x3mm, Pitch 0.65mm, IPC Low Density)
pins: 1 VOUT (power) "Supply output", 2 VDD (power) "Input supply voltage", 3 GND (power) "Ground", 4 PFI (in) "Power-fail comparator input", 5 ~{PFO} (out) "Power-fail comparator output", 6 ~{MR} (in) "Manual reset input", 7 ~{RESET} (out) "Active-low reset output", 8 VBAT (power) "Backup-battery input"

## TPS3619-50DGKG4
designator U?
Battery-Backup Supervisor for RAM Retention, 1 Supply Monitored, -40 to 85 degC, 8-pin VSSOP (DGK), Green (RoHS & no Sb/Br); Manufacturer: Texas Instruments; PartNumber: TPS3619-50DGKG4; # of supplies monitored: 1; Iq(Typ)(uA): 15; Output Driver Type / Reset Output: Active-low, Push-pull; Rating: Catalog; Reset Threshold Accuracy(%): 2; SubFamily: Supervisor and Reset IC; Threshold Voltage 1 (typ)(Typ)(V): 4.55; Threshold Voltage 2 (typ)(Typ)(V): Adjustable; Time Delay(ms): 100; VCC(Max)(V): 5.5; VCC(Min)(V): 1.65; DatasheetVersion: SLVS387H; PackageVersion: revE, May-2006; PackageReference: DGK8; PackageDescription: 8-Pin Thin Small Outline Package 3 x 3 mm Body ,0.65 mm Pitch; Supplier 1: Digi-Key; Supplier Part Number 1: TPS3619-50DGKG4-ND; Supplier 2: Newark; Supplier Part Number 2: 54K1638; Supplier 3: Mouser; Supplier Part Number 3: 595-TPS3619-50DGKG4; Mounting Technology: Surface Mount; Code_JEDEC: MO-187-AA; ComponentLink1Description: Datasheet; ComponentLink1URL: http://www.ti.com/general/docs/lit/getliterature.tsp?genericPartNumber=TPS3619-50&fileType=pdf
footprint DGK8_N (TSOP, 8-Leads, Body 3x3mm, Pitch 0.65mm, IPC Medium Density)
footprint DGK8_L (TSOP, 8-Leads, Body 3x3mm, Pitch 0.65mm, IPC High Density)
footprint DGK8_M (TSOP, 8-Leads, Body 3x3mm, Pitch 0.65mm, IPC Low Density)
pins: 1 VOUT (power) "Supply output", 2 VDD (power) "Input supply voltage", 3 GND (power) "Ground", 4 PFI (in) "Power-fail comparator input", 5 ~{PFO} (out) "Power-fail comparator output", 6 ~{MR} (in) "Manual reset input", 7 ~{RESET} (out) "Active-low reset output", 8 VBAT (power) "Backup-battery input"

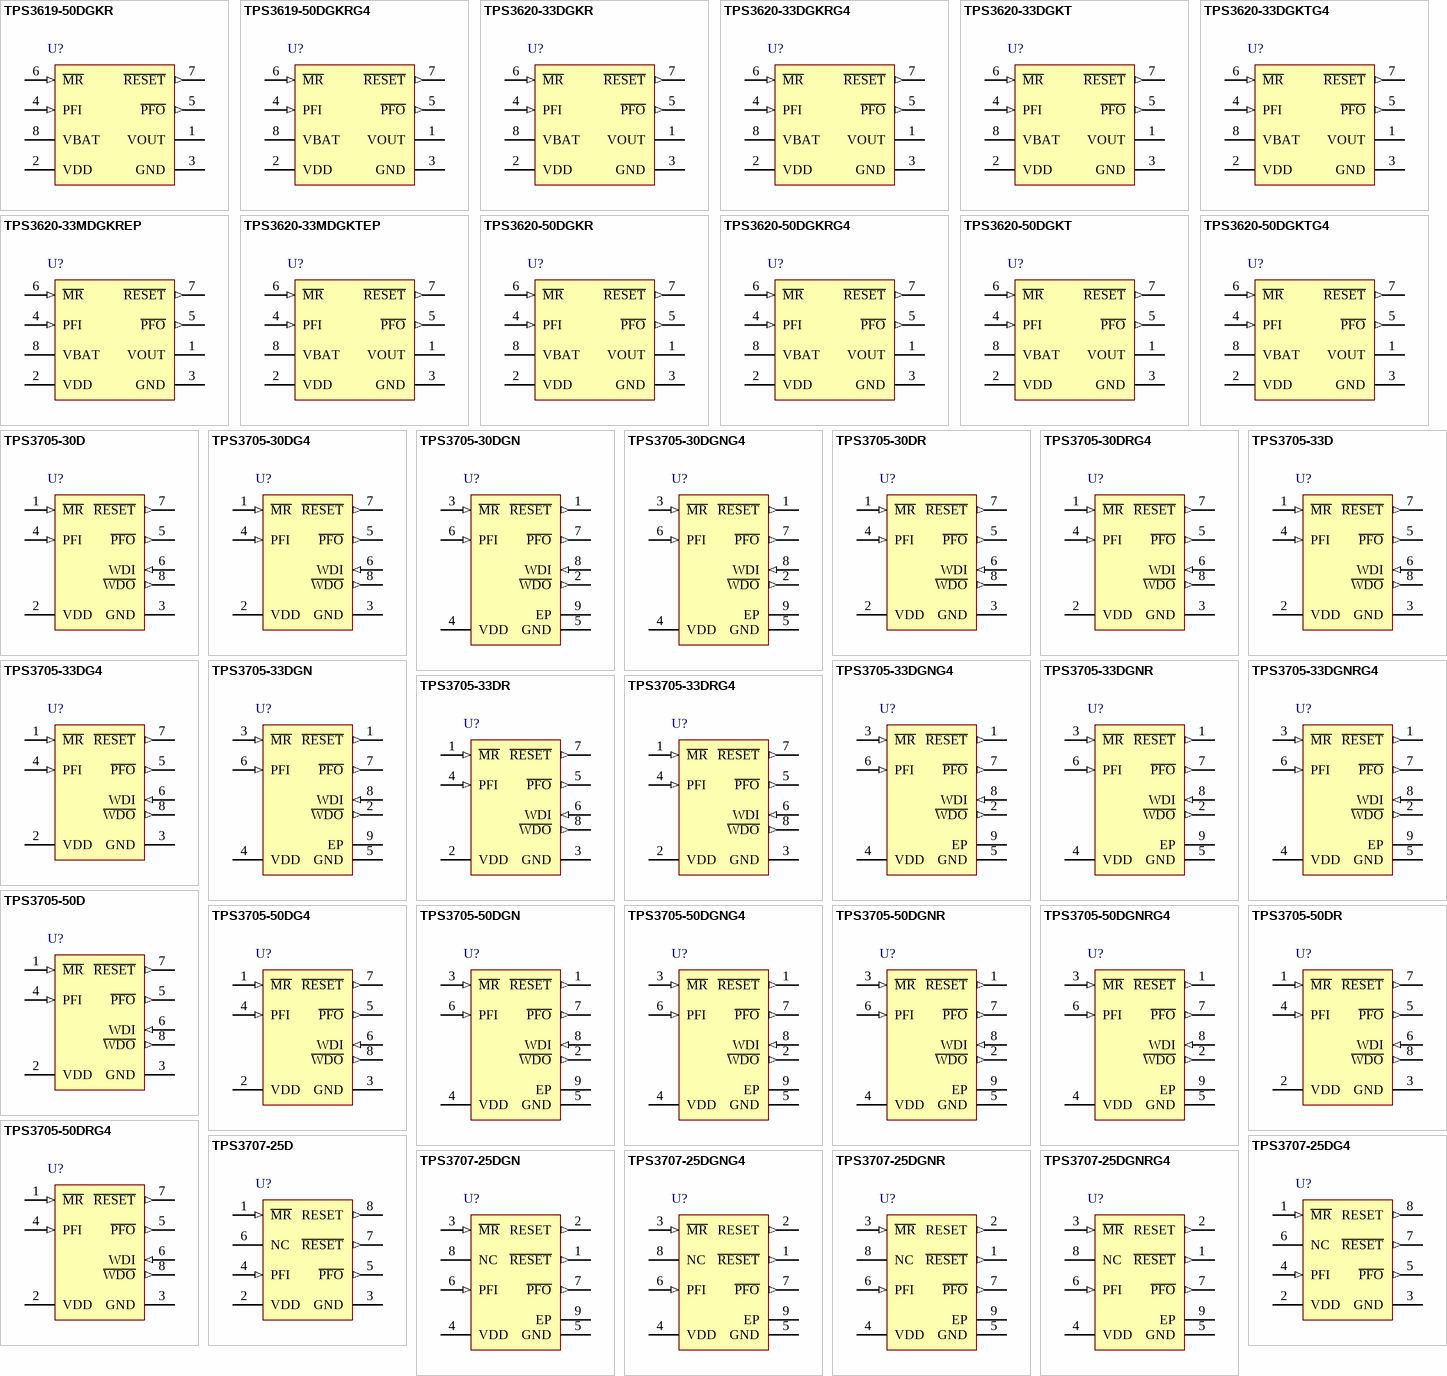
[diagram p14: symbols TPS3619-50DGKR to TPS3707-25DGNRG4]

## TPS3619-50DGKR
designator U?
Battery-Backup Supervisor for RAM Retention, 1 Supply Monitored, -40 to 85 degC, 8-pin VSSOP (DGK), Green (RoHS & no Sb/Br); Manufacturer: Texas Instruments; PartNumber: TPS3619-50DGKR; # of supplies monitored: 1; Iq(Typ)(uA): 15; Output Driver Type / Reset Output: Active-low, Push-pull; Rating: Catalog; Reset Threshold Accuracy(%): 2; SubFamily: Supervisor and Reset IC; Threshold Voltage 1 (typ)(Typ)(V): 4.55; Threshold Voltage 2 (typ)(Typ)(V): Adjustable; Time Delay(ms): 100; VCC(Max)(V): 5.5; VCC(Min)(V): 1.65; DatasheetVersion: SLVS387H; PackageVersion: revE, May-2006; PackageReference: DGK8; PackageDescription: 8-Pin Thin Small Outline Package 3 x 3 mm Body ,0.65 mm Pitch; Supplier 1: Digi-Key; Supplier Part Number 1: TPS3619-50DGKR-ND; Supplier 2: Newark; Supplier Part Number 2: 77C0362; Supplier 3: Mouser; Supplier Part Number 3: 595-TPS3619-50DGKR; Mounting Technology: Surface Mount; Code_JEDEC: MO-187-AA; ComponentLink1Description: Datasheet; ComponentLink1URL: http://www.ti.com/general/docs/lit/getliterature.tsp?genericPartNumber=TPS3619-50&fileType=pdf
footprint DGK8_N (TSOP, 8-Leads, Body 3x3mm, Pitch 0.65mm, IPC Medium Density)
footprint DGK8_L (TSOP, 8-Leads, Body 3x3mm, Pitch 0.65mm, IPC High Density)
footprint DGK8_M (TSOP, 8-Leads, Body 3x3mm, Pitch 0.65mm, IPC Low Density)
pins: 1 VOUT (power) "Supply output", 2 VDD (power) "Input supply voltage", 3 GND (power) "Ground", 4 PFI (in) "Power-fail comparator input", 5 ~{PFO} (out) "Power-fail comparator output", 6 ~{MR} (in) "Manual reset input", 7 ~{RESET} (out) "Active-low reset output", 8 VBAT (power) "Backup-battery input"

## TPS3619-50DGKRG4
designator U?
Battery-Backup Supervisor for RAM Retention, 1 Supply Monitored, -40 to 85 degC, 8-pin VSSOP (DGK), Green (RoHS & no Sb/Br); Manufacturer: Texas Instruments; PartNumber: TPS3619-50DGKRG4; # of supplies monitored: 1; Iq(Typ)(uA): 15; Output Driver Type / Reset Output: Active-low, Push-pull; Rating: Catalog; Reset Threshold Accuracy(%): 2; SubFamily: Supervisor and Reset IC; Threshold Voltage 1 (typ)(Typ)(V): 4.55; Threshold Voltage 2 (typ)(Typ)(V): Adjustable; Time Delay(ms): 100; VCC(Max)(V): 5.5; VCC(Min)(V): 1.65; DatasheetVersion: SLVS387H; PackageVersion: revE, May-2006; PackageReference: DGK8; PackageDescription: 8-Pin Thin Small Outline Package 3 x 3 mm Body ,0.65 mm Pitch; Supplier 1: Digi-Key; Supplier Part Number 1: TPS3619-50DGKRG4-ND; Supplier 2: Newark; Supplier Part Number 2: 54K1639; Supplier 3: Mouser; Supplier Part Number 3: 595-TPS3619-50DGKRG4; Mounting Technology: Surface Mount; Code_JEDEC: MO-187-AA; ComponentLink1Description: Datasheet; ComponentLink1URL: http://www.ti.com/general/docs/lit/getliterature.tsp?genericPartNumber=TPS3619-50&fileType=pdf
footprint DGK8_N (TSOP, 8-Leads, Body 3x3mm, Pitch 0.65mm, IPC Medium Density)
footprint DGK8_L (TSOP, 8-Leads, Body 3x3mm, Pitch 0.65mm, IPC High Density)
footprint DGK8_M (TSOP, 8-Leads, Body 3x3mm, Pitch 0.65mm, IPC Low Density)
pins: 1 VOUT (power) "Supply output", 2 VDD (power) "Input supply voltage", 3 GND (power) "Ground", 4 PFI (in) "Power-fail comparator input", 5 ~{PFO} (out) "Power-fail comparator output", 6 ~{MR} (in) "Manual reset input", 7 ~{RESET} (out) "Active-low reset output", 8 VBAT (power) "Backup-battery input"

## TPS3620-33DGKR
designator U?
3.3 V Battery-Backup Supervisor for RAM Retention, 1 Supply Monitored, -40 to 85 degC, 8-pin VSSOP (DGK), Green (RoHS & no Sb/Br); Manufacturer: Texas Instruments; PartNumber: TPS3620-33DGKR; # of supplies monitored: 1; Iq(Typ)(uA): 15; Output Driver Type / Reset Output: Active-low, Push-pull; Rating: Catalog; Reset Threshold Accuracy(%): 2; SubFamily: Supervisor and Reset IC; Threshold Voltage 1 (typ)(Typ)(V): 2.93; Threshold Voltage 2 (typ)(Typ)(V): Adjustable; Time Delay(ms): 100; VCC(Max)(V): 5.5; VCC(Min)(V): 1.65; DatasheetVersion: SLVS387H; PackageVersion: revE, May-2006; PackageReference: DGK8; PackageDescription: 8-Pin Thin Small Outline Package 3 x 3 mm Body ,0.65 mm Pitch; Supplier 1: Digi-Key; Supplier Part Number 1: 296-17452-2-ND; Supplier 2: Digi-Key; Supplier Part Number 2: 296-17452-1-ND; Supplier 3: Digi-Key; Supplier Part Number 3: 296-17452-6-ND; Supplier 4: Farnell; Supplier Part Number 4: 1544024; Supplier 5: Newark; Supplier Part Number 5: 95M0039; Supplier 6: Newark; Supplier Part Number 6: 44J2517; Supplier 7: Mouser; Supplier Part Number 7: 595-TPS3620-33DGKR; Mounting Technology: Surface Mount; Code_JEDEC: MO-187-AA; ComponentLink1Description: Datasheet; ComponentLink1URL: http://www.ti.com/general/docs/lit/getliterature.tsp?genericPartNumber=TPS3620-33&fileType=pdf
footprint DGK8_N (TSOP, 8-Leads, Body 3x3mm, Pitch 0.65mm, IPC Medium Density)
footprint DGK8_L (TSOP, 8-Leads, Body 3x3mm, Pitch 0.65mm, IPC High Density)
footprint DGK8_M (TSOP, 8-Leads, Body 3x3mm, Pitch 0.65mm, IPC Low Density)
pins: 1 VOUT (power) "Supply output", 2 VDD (power) "Input supply voltage", 3 GND (power) "Ground", 4 PFI (in) "Power-fail comparator input", 5 ~{PFO} (out) "Power-fail comparator output", 6 ~{MR} (in) "Manual reset input", 7 ~{RESET} (out) "Active-low reset output", 8 VBAT (power) "Backup-battery input"